# Altium footprint library PiezoDrive.PcbLib: 10 footprints
Each footprint in its own frame and in the unit in brackets; x right, y up, seen from the top. Pads: shape width x height; smd on the part's side, far side on the other; paste and mask are expansions set on the pad; w line width, h text height; cw(c..) or ccw(c..) is an arc to the next point about the centre after c.
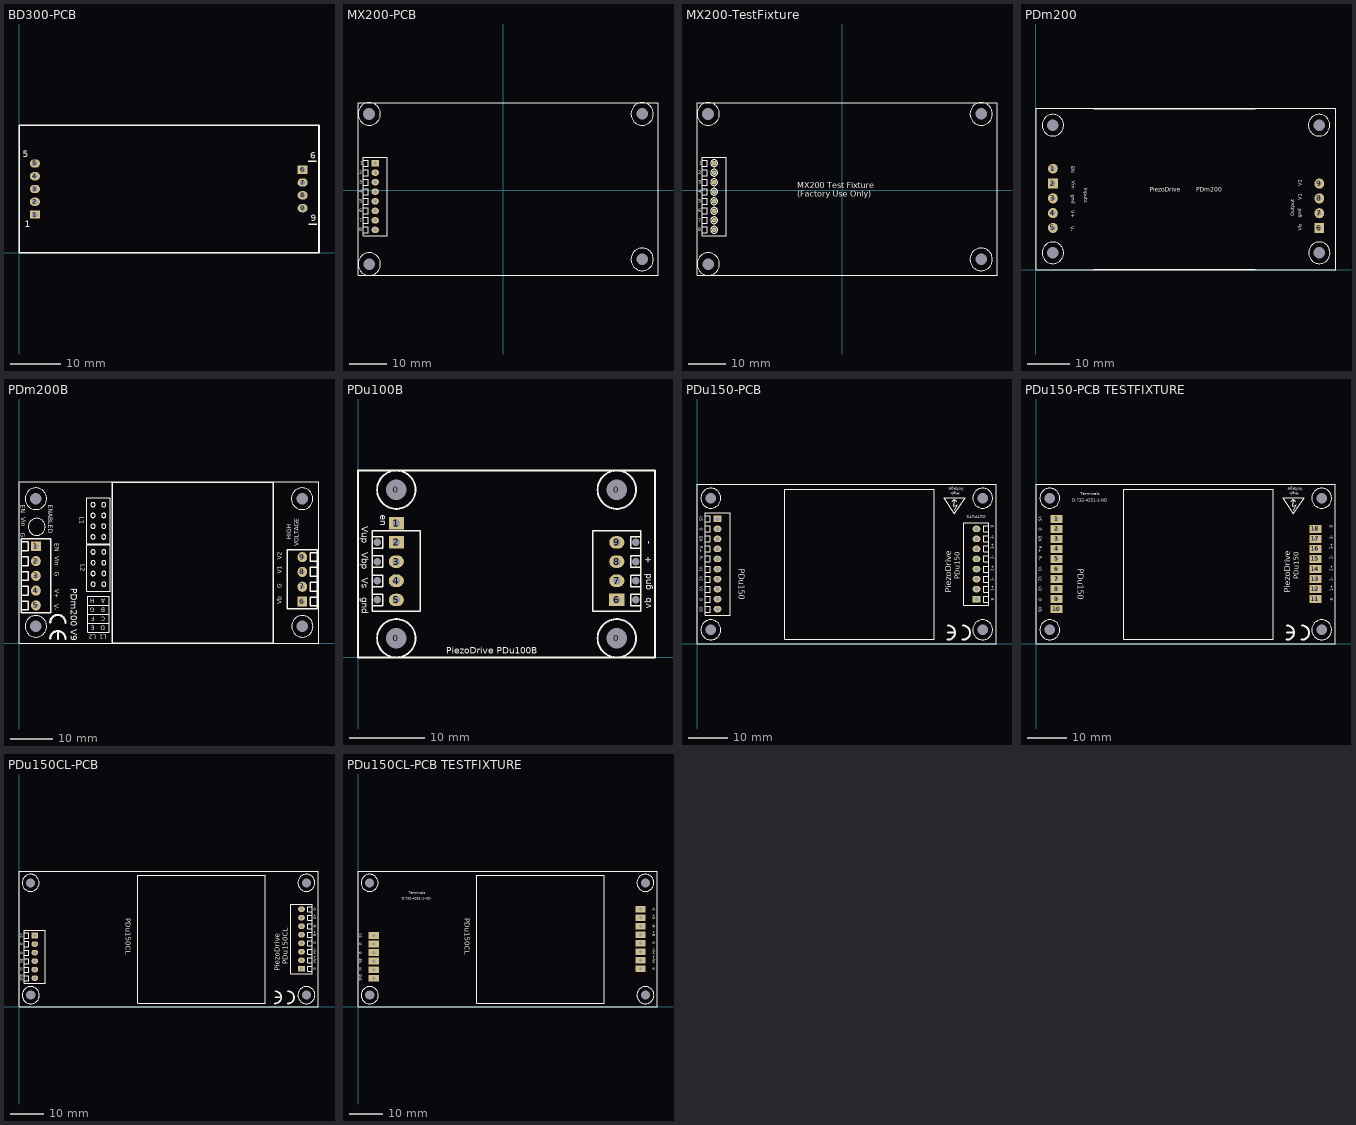
[diagram p0: the footprints below, top view; thin cyan lines are the x and y axes]

## BD300-PCB [mm] "BD300 PCB Mounting"
height 8
pads (9):
  rect 2x1.651 hole 1.1: 1(3.175,7.62) 6(56.435,16.515)
  oval 2x1.651 hole 1.1: 2(3.175,10.16) 3(3.175,12.7) 4(3.175,15.24) 5(3.175,17.78) 7(56.435,13.975) 8(56.435,11.435) 9(56.435,8.895)
Top Overlay:
  lines w0.254: 57.544,18.221 59.145,18.221 ; 57.694,5.723 59.284,5.723 ; 0,0 0,25.4 ; 0,0 59.69,0 ; 0,0 0,25.4 ; 0,0 59.69,0 ; 0,25.4 59.69,25.4 ; 0,25.4 59.69,25.4 ; 59.69,0 59.69,25.4 ; 59.69,0 59.69,0 ; 59.69,0 59.69,25.4 ; 59.69,25.4 59.69,25.4
  text "1" at 1.1,5.1 h1.3
  text "5" at 0.796,19 h1.3
  text "6" at 57.955,18.75 h1.3
  text "9" at 58.049,6.305 h1.3
Bottom Overlay:
  lines w0.203: 0,6.096 0,19.304 ; 59.61,7.371 59.61,18.039
3D body: height 2, standoff 0, extent 55.06,7.7 57.76,17.735
3D body: height 3.6, standoff 2, extent 0,0 59.69,25.4
3D body: height 8, standoff 3.6, extent 6,0 54,25.4
3D body: height 2, standoff 0, extent 1.8,6.4 4.5,19
3D body: height 2, standoff -5, extent 2.875,17.48 3.475,18.08
3D body: height 2, standoff -5, extent 2.875,14.94 3.475,15.54
3D body: height 2, standoff -5, extent 2.875,12.4 3.475,13
3D body: height 2, standoff -5, extent 2.875,9.86 3.475,10.46
3D body: height 2, standoff -5, extent 2.875,7.32 3.475,7.92
3D body: height 2, standoff -5, extent 56.135,16.215 56.735,16.815
3D body: height 2, standoff -5, extent 56.135,13.675 56.735,14.275
3D body: height 2, standoff -5, extent 56.135,11.135 56.735,11.735
3D body: height 2, standoff -5, extent 56.135,8.595 56.735,9.195

## MX200-PCB [mil] "MX200 with header for PCB mounting"
height 1811.02
pads (12):
  round 60 hole 122.05 unplated: 0(-1406.89,-774.57) 0(1459.09,-725) 0(1459.09,801.89)
  round 60 hole 125.98 unplated: 0(-1406.89,801.89)
  rect 78.74x65 hole 39.37: 1(-1345,285)
  oval 78.74x65 hole 39.37: 2(-1345,185) 3(-1345,85) 4(-1345,-15) 5(-1345,-115) 6(-1345,-215) 7(-1345,-315) 8(-1345,-415)
Top Overlay:
  circle w10: c1459.09,-725 r118.11
  circle w10: c1459.09,801.89 r118.11
  circle w10: c-1406.89,-774.57 r118.11
  circle w10: c-1406.89,801.89 r118.11
  lines w8: -1470,-445 -1416.85,-445 -1416.85,-385 -1470,-385 ; -1470,-345 -1416.85,-345 -1416.85,-285 -1470,-285 ; -1470,-245 -1416.85,-245 -1416.85,-185 -1470,-185 ; -1470,-145 -1416.85,-145 -1416.85,-85 -1470,-85 ; -1470,-45 -1416.85,-45 -1416.85,15 -1470,15 ; -1470,55 -1416.85,55 -1416.85,115 -1470,115 ; -1470,155 -1416.85,155 -1416.85,215 -1470,215 ; -1470,255 -1416.85,255 -1416.85,315 -1470,315 ; -1470,-475 -1220,-475 -1220,345 -1470,345 -1470,-475
  lines w10: -1525,-892.68 1624.61,-892.68 1624.61,920 -1525,920 -1525,-892.68
  text "2" at -1511.02,167.64 h40
  text "1" at -1501.02,267.64 h40
  text "3" at -1511.02,67.64 h40
  text "4" at -1511.02,-32.36 h40
  text "5" at -1511.02,-132.36 h40
  text "6" at -1511.02,-232.36 h40
  text "7" at -1511.02,-337.36 h40
  text "8" at -1481.02,-392.36 h40

## MX200-TestFixture [mil] "MX200 Footprint with Spring Load Terminals for Factory Testing"
height 1811.02
pads (12):
  round 60 hole 122.05 unplated: 0(-1406.89,-774.57) 0(1459.09,-725) 0(1459.09,801.89)
  round 60 hole 125.98 unplated: 0(-1406.89,801.89)
  rect 50x50 hole 20: 1(-1345,285)
  round 50 hole 20: 2(-1345,185) 3(-1345,85) 4(-1345,-15) 5(-1345,-115) 6(-1345,-215) 7(-1345,-315) 8(-1345,-415)
Top Overlay:
  circle w10: c1459.09,-725 r118.11
  circle w10: c1459.09,801.89 r118.11
  circle w10: c-1406.89,-774.57 r118.11
  circle w10: c-1406.89,801.89 r118.11
  circle w10: c-1345,285 r36
  circle w10: c-1345,185 r36
  circle w10: c-1345,85 r36
  circle w10: c-1345,-15 r36
  circle w10: c-1345,-115 r36
  circle w10: c-1345,-215 r36
  circle w10: c-1345,-315 r36
  circle w10: c-1345,-415 r36
  lines w8: -1470,-445 -1416.85,-445 -1416.85,-385 -1470,-385 ; -1470,-345 -1416.85,-345 -1416.85,-285 -1470,-285 ; -1470,-245 -1416.85,-245 -1416.85,-185 -1470,-185 ; -1470,-145 -1416.85,-145 -1416.85,-85 -1470,-85 ; -1470,-45 -1416.85,-45 -1416.85,15 -1470,15 ; -1470,55 -1416.85,55 -1416.85,115 -1470,115 ; -1470,155 -1416.85,155 -1416.85,215 -1470,215 ; -1470,255 -1416.85,255 -1416.85,315 -1470,315 ; -1470,-475 -1220,-475 -1220,345 -1470,345 -1470,-475
  lines w10: -1525,-892.68 1624.61,-892.68 1624.61,920 -1525,920 -1525,-892.68
  text "2" at -1511.02,167.64 h40
  text "1" at -1501.02,267.64 h40
  text "3" at -1511.02,67.64 h40
  text "4" at -1511.02,-32.36 h40
  text "5" at -1511.02,-132.36 h40
  text "6" at -1511.02,-232.36 h40
  text "7" at -1511.02,-337.36 h40
  text "8" at -1481.02,-392.36 h40
  text "MX200 Test Fixture / (Factory Use Only)" at -470,-70 h60

## PDm200 [mm] "PiezoDrive PDm200 Module"
height 30
pads (13):
  round 1.524 hole 2.7 unplated: 0(4.043,34.2) 0(4.043,4) 0(66.993,34.2) 0(67.043,4.001)
  round 2.3 hole 1.15: 1(4.043,23.9)
  rect 2.3x2.3 hole 1.15: 2(4.043,20.4) 6(67.043,9.874)
  oval 2.3x2.4 hole 1.15: 3(4.043,16.9) 4(4.043,13.4) 5(4.043,9.9) 7(67.043,13.374) 8(67.043,16.874) 9(67.043,20.374)
Top Overlay:
  circle w0.254: c4.043,4 r2.54
  circle w0.254: c67.043,4.001 r2.54
  circle w0.254: c4.043,34.2 r2.54
  circle w0.254: c66.993,34.2 r2.54
  lines w0.254: 0.043,0 70.993,0 70.993,38.2 0.043,38.2 0.043,0
  lines w0.3: 13.744,0 51.844,0 ; 13.744,38.1 51.844,38.1
  text "V+" at 8.323,14.023 h0.89
  text "V-" at 8.316,10.339 h0.89
  text "Vin" at 8.443,20.999 h0.89
  text "EN" at 8.425,24.511 h0.89
  text "Vb" at 62.843,9.175 h0.89
  text "gnd" at 62.743,12.283 h0.89
  text "V1" at 62.918,16.444 h0.89
  text "V2" at 62.843,19.725 h0.89
  text "Output" at 61.13,12.7 h0.89
  text "PiezoDrive" at 26.924,18.415 h1.02
  text "PDm200" at 37.973,18.415 h1.02
  text "gnd" at 8.443,17.749 h0.89
  text "Inputs" at 11.43,19.431 h0.89

## PDm200B [mm] "PiezoDrive PDm200B Module"
height 40
pads (13):
  round 1.524 hole 2.7 unplated: 0(4,34.2) 0(4,4) 0(66.95,34.2) 0(67,4.001)
  rect 2.3x2.3 hole 1.15: 1(4,22.94) 6(67,9.874)
  oval 2.3x2.4 hole 1.15: 2(4,19.44) 3(4,15.94) 4(4,12.44) 5(4,8.94) 7(67,13.374) 8(67,16.874) 9(67,20.374)
Top Overlay:
  circle w0.254: c4,4 r2.54
  circle w0.254: c67,4.001 r2.54
  circle w0.254: c4,34.2 r2.54
  circle w0.254: c66.95,34.2 r2.54
  circle w0.254: c17.501,32.766 r0.508
  circle w0.254: c20.041,32.766 r0.508
  circle w0.254: c17.501,30.226 r0.508
  circle w0.254: c20.041,30.226 r0.508
  circle w0.254: c17.501,27.686 r0.508
  circle w0.254: c20.041,27.686 r0.508
  circle w0.254: c17.501,25.146 r0.508
  circle w0.254: c20.041,25.146 r0.508
  circle w0.254: c20.066,13.97 r0.508
  circle w0.254: c17.526,13.97 r0.508
  circle w0.254: c20.066,16.51 r0.508
  circle w0.254: c17.526,16.51 r0.508
  circle w0.254: c20.066,19.05 r0.508
  circle w0.254: c17.526,19.05 r0.508
  circle w0.254: c20.066,21.59 r0.508
  circle w0.254: c17.526,21.59 r0.508
  lines w0.254: 16.231,4.75 21.336,4.75 ; 16.231,6.858 21.336,6.858 ; 16.231,8.966 21.336,8.966 ; 0,0 70.95,0 ; 0,0 0,38.2 ; 0,0 0,38.2 ; 0,0 70.95,0 ; 0,38.2 70.95,38.2 ; 0,38.2 70.95,38.2 ; 16.002,12.31 16.002,23.241 ; 16.002,12.31 21.59,12.31 ; 16.002,12.31 21.59,12.31 ; 16.002,12.31 16.002,23.241 ; 16.002,23.241 21.59,23.241 ; 16.002,23.241 21.59,23.241 ; 21.59,12.31 21.59,23.241 ; 21.59,12.31 21.59,23.241 ; 70.95,0 70.95,38.2 ; 70.95,0 70.95,38.2 ; 3.166,29.258 ccw(c4.177,27.533) 3.166,29.258 ; 15.977,23.495 21.565,23.495 21.565,34.426 15.977,34.426 15.977,23.495 ; 16.231,2.642 21.336,2.642 21.336,11.074 16.231,11.074 16.231,2.642
  lines w0.3: 21.996,0.025 21.996,38.125 60.096,38.125 60.096,0.025 21.996,0.025
  lines w0.305: 0.5,7.89 2.175,7.89 2.175,9.965 0.5,9.965 ; 0.5,11.39 2.175,11.39 2.175,13.465 0.5,13.465 ; 0.5,14.89 2.175,14.89 2.175,16.965 0.5,16.965 ; 0.5,18.39 2.175,18.39 2.175,20.465 0.5,20.465 ; 0.5,21.915 2.175,21.915 2.175,23.99 0.5,23.99 ; 70.5,8.824 68.825,8.824 68.825,10.899 70.5,10.899 ; 70.5,12.349 68.825,12.349 68.825,14.424 70.5,14.424 ; 70.5,15.849 68.825,15.849 68.825,17.924 70.5,17.924 ; 70.5,19.349 68.825,19.349 68.825,21.424 70.5,21.424 ; 0.5,7.24 7.5,7.24 7.5,24.69 0.5,24.69 0.5,7.24 ; 63.5,8.124 63.5,22.074 70.5,22.074 70.5,8.124 63.5,8.124
  lines w0.508: 7.391,1.092 cw(c9.191,1.092) 10.988,1.017 ; 7.391,4.902 cw(c9.191,4.902) 10.988,4.827 ; 9.191,1.067 9.191,2.87
  text "HIGH" at 64.399,24.529 h1
  text "L2" at 14.601,18.644 h1.02
  text "L1" at 14.376,29.896 h1.02
  text "L1" at 20.752,2.032 h1.02
  text "L2" at 18.313,2.032 h1.02
  text "H" at 17.856,10.49 h1.02
  text "G" at 17.856,8.382 h1.02
  text "F" at 17.856,6.274 h1.02
  text "E" at 17.856,4.166 h1.02
  text "D" at 20.447,4.166 h1.02
  text "C" at 20.447,6.274 h1.02
  text "B" at 20.447,8.382 h1.02
  text "A" at 20.447,10.49 h1.02
  text "Vb" at 62.114,9.175 h1.02
  text "G" at 62.128,13.056 h1.02
  text "V1" at 62.189,16.444 h1.02
  text "V2" at 62.114,19.725 h1.02
  text "V+" at 8.407,12.802 h1.02
  text "V-" at 8.331,9.271 h1.02
  text "G" at 8.433,16.916 h1.02
  text "Vin" at 8.458,20.523 h1.02
  text "EN" at 8.433,23.673 h1.02
  text "PDm200" at 12.289,13.016 h1.52
  text "VOLTAGE" at 66.158,22.95 h1.02
  text "EN" at 0.442,32.709 h1.02
  text "Vin" at 0.495,29.774 h1.02
  text "G" at 0.439,26.132 h1.02
  text "V9" at 12.291,3.293 h1.52
  text "ENABLED" at 6.918,32.709 h1.02

## PDu100B [mm] "PiezoDrive PDu100B Module"
height 15
pads (21):
  rect 0x0 hole 1 unplated: 0(2.54,7.62) 0(2.54,10.16) 0(2.54,12.7) 0(2.54,15.24) 0(36.83,7.62) 0(36.83,10.16) 0(36.83,12.7) 0(36.83,15.24)
  round 1.524 hole 2.7 unplated: 0(5.08,2.54) 0(5.08,22.225) 0(34.29,2.54) 0(34.29,22.225)
  rect 2x1.651 hole 1: 1(5.08,17.78) 2(5.08,15.24) 6(34.29,7.62)
  oval 2x1.651 hole 1: 3(5.08,12.7) 4(5.08,10.16) 5(5.08,7.62) 7(34.29,10.16) 8(34.29,12.7) 9(34.29,15.24)
Bottom Layer:
  lines w0.203: 5.08,12.7 5.588,12.7
Top Overlay:
  circle w0.254: c34.29,22.225 r2.54
  circle w0.254: c34.29,2.54 r2.54
  circle w0.254: c5.08,2.54 r2.54
  circle w0.254: c5.08,22.225 r2.54
  lines w0.203: 1.905,6.858 3.255,6.858 3.255,8.382 1.905,8.382 ; 1.905,9.398 3.255,9.398 3.255,10.922 1.905,10.922 ; 1.905,11.938 3.255,11.938 3.255,13.462 1.905,13.462 ; 1.905,14.478 3.255,14.478 3.255,16.002 1.905,16.002 ; 37.465,6.858 36.115,6.858 36.115,8.382 37.465,8.382 ; 37.465,9.398 36.115,9.398 36.115,10.922 37.465,10.922 ; 37.465,11.938 36.115,11.938 36.115,13.462 37.465,13.462 ; 37.465,14.478 36.115,14.478 36.115,16.002 37.465,16.002 ; 1.905,6.096 1.905,16.764 8.255,16.764 8.255,6.096 1.905,6.096 ; 31.115,6.096 37.465,6.096 37.465,16.764 31.115,16.764 31.115,6.096
  lines w0.254: 0,0 39.37,0 39.37,24.765 0,24.765 0,0
  text "PiezoDrive PDu100B" at 11.684,0.508 h0.89
  text "Vbp" at 0.508,13.97 h0.89
  text "Vup" at 0.508,17.399 h0.89
  text "Vs" at 0.508,10.541 h0.89
  text "en" at 2.921,18.923 h0.89
  text "gnd" at 0.508,8.001 h0.89
  text "-" at 38.862,14.986 h0.89
  text "vb" at 38.862,6.477 h0.89
  text "+" at 38.862,12.446 h0.89
  text "gnd" at 38.862,8.89 h0.89

## PDu150-PCB [mil] "150V Piezo Driver"
height 1574.8
pads (22):
  round 60 hole 106.3 unplated: 0(137.8,137.8) 0(137.8,1452.2) 0(2852.2,137.8) 0(2852.2,1452.2)
  rect 78.74x65 hole 39.37: 1(205,1245) 11(2790,445)
  oval 78.74x65 hole 39.37: 2(205,1145) 3(205,1045) 4(205,945) 5(205,845) 6(205,745) 7(205,645) 8(205,545) 9(205,445) 10(205,345) 12(2790,545) 13(2790,645) 14(2790,745) 15(2790,845) 16(2790,945) 17(2790,1045) 18(2790,1145)
Top Overlay:
  circle w10: c2852.2,137.8 r100
  circle w10: c2852.2,1452.2 r100
  circle w10: c137.8,137.8 r100
  circle w10: c137.8,1452.2 r100
  lines w7.87: 2461,1456 2570.12,1297.27 2679.25,1456 2462,1456
  lines w8: 80,315 133.15,315 133.15,375 80,375 ; 80,415 133.15,415 133.15,475 80,475 ; 80,515 133.15,515 133.15,575 80,575 ; 80,615 133.15,615 133.15,675 80,675 ; 80,715 133.15,715 133.15,775 80,775 ; 80,815 133.15,815 133.15,875 80,875 ; 80,915 133.15,915 133.15,975 80,975 ; 80,1015 133.15,1015 133.15,1075 80,1075 ; 80,1115 133.15,1115 133.15,1175 80,1175 ; 80,1215 133.15,1215 133.15,1275 80,1275 ; 2915,415 2861.85,415 2861.85,475 2915,475 ; 2915,515 2861.85,515 2861.85,575 2915,575 ; 2915,615 2861.85,615 2861.85,675 2915,675 ; 2915,715 2861.85,715 2861.85,775 2915,775 ; 2915,815 2861.85,815 2861.85,875 2915,875 ; 2915,915 2861.85,915 2861.85,975 2915,975 ; 2915,1015 2861.85,1015 2861.85,1075 2915,1075 ; 2915,1115 2861.85,1115 2861.85,1175 2915,1175 ; 80,285 80,1305 330,1305 330,285 80,285 ; 2665,385 2915,385 2915,1205 2665,1205 2665,385
  lines w10: 0,0 2990,0 2990,1590 0,1590 0,0 ; 875,45 2370,45 2370,1540 875,1540 875,45
  lines w11.81: 2550,1420 2570,1439 2586.73,1419.14 ; 2571,1438 2561.21,1373.97 2600.21,1387.97 2573.21,1330.97
  lines w20: 2502,39.73 ccw(c2504.94,110.5) 2504.94,181.33 ; 2503.94,110.5 2574.94,110.5 ; 2652,39.73 ccw(c2654.94,110.5) 2654.94,181.33
  text "OUTPUTS" at 2885,1280 h30
  text "PDu150" at 2625,641.94 h50
  text "PiezoDrive" at 2539.37,507.32 h60
  text "PDu150" at 417.01,750 h60
  text "V2" at 25,672.06 h30
  text "High" at 2625,1510 h30
  text "R-" at 25,870 h30
  text "G" at 25,455 h30
  text "OS" at 25,370 h30
  text "V1" at 25,765.1 h30
  text "EN" at 25,1071.31 h30
  text "VS" at 25,1269.3 h30
  text "Voltage" at 2665,1555 h30
  text "R+" at 25,970 h30
  text "V3" at 25,571.3 h30
  text "G" at 25,1156.48 h30
  text "1-" at 2965,625 h30
  text "1+" at 2965,525 h30
  text "3+" at 2965,940 h30
  text "2-" at 2965,840 h30
  text "g" at 2960,430 h30
  text "2+" at 2965,725 h30
  text "3-" at 2965,1040 h30
  text "g" at 2955,1155 h30

## PDu150-PCB TESTFIXTURE [mm] "150V Piezo Driver"
height 40
pads (22):
  round 1.524 hole 2.7 unplated: 0(3.5,3.5) 0(3.5,36.886) 0(72.446,3.5) 0(72.446,36.886)
  rect 3x2 hole 1: 1(5.207,31.623) 2(5.207,29.083) 3(5.207,26.543) 4(5.207,24.003) 5(5.207,21.463) 6(5.207,18.923) 7(5.207,16.383) 8(5.207,13.843) 9(5.207,11.303) 10(5.207,8.763) 11(70.866,11.303) 12(70.866,13.843) 13(70.866,16.383) 14(70.866,18.923) 15(70.866,21.463) 16(70.866,24.003) 17(70.866,26.543) 18(70.866,29.083)
Top Overlay:
  circle w0.254: c3.5,36.886 r2.54
  circle w0.254: c3.5,3.5 r2.54
  circle w0.254: c72.446,36.886 r2.54
  circle w0.254: c72.446,3.5 r2.54
  lines w0.2: 62.509,36.982 65.281,32.951 68.053,36.982 62.535,36.982
  lines w0.254: 0,0 0,40.386 75.946,40.386 75.946,0 0,0 ; 22.225,1.143 22.225,39.116 60.198,39.116 60.198,1.143 22.225,1.143
  lines w0.3: 64.77,36.068 65.278,36.551 65.703,36.046 ; 65.303,36.525 65.055,34.899 66.045,35.254 65.359,33.807
  lines w0.508: 63.551,1.009 ccw(c63.626,2.807) 63.626,4.606 ; 63.6,2.807 65.404,2.807 ; 67.361,1.009 ccw(c67.436,2.807) 67.436,4.606
  text "g" at 75.057,29.337 h0.76
  text "3-" at 75.311,26.416 h0.76
  text "2+" at 75.311,18.415 h0.76
  text "g" at 75.184,10.922 h0.76
  text "2-" at 75.311,21.336 h0.76
  text "3+" at 75.311,23.876 h0.76
  text "1+" at 75.311,13.335 h0.76
  text "1-" at 75.311,15.875 h0.76
  text "G" at 0.635,29.375 h0.76
  text "V3" at 0.635,14.511 h0.76
  text "R+" at 0.635,24.638 h0.76
  text "VS" at 0.635,32.24 h0.76
  text "EN" at 0.635,27.211 h0.76
  text "V1" at 0.635,19.434 h0.76
  text "OS" at 0.635,9.398 h0.76
  text "G" at 0.635,11.557 h0.76
  text "R-" at 0.635,22.098 h0.76
  text "V2" at 0.635,17.07 h0.76
  text "PDu150" at 10.592,19.05 h1.52
  text "PiezoDrive" at 64.5,12.886 h1.52
  text "PDu150" at 66.675,16.305 h1.27
  text "Terminals" at 11.176,37.592 h0.76
  text "D:732-4251-1-ND" at 9.144,35.941 h0.76
  text "Voltage" at 67.691,39.497 h0.76
  text "High" at 66.675,38.354 h0.76

## PDu150CL-PCB [mil] "150V Closed-Loop Piezo Driver"
height 1574.8
pads (18):
  round 60 hole 106.3 unplated: 0(136.8,1452.2) 0(137.8,136.8) 0(3367.2,1453.2) 0(3368.2,137.8)
  rect 78.74x65 hole 39.37: 1(185,836) 7(3310,445)
  oval 78.74x65 hole 39.37: 2(185,736) 3(185,636) 4(185,536) 5(185,436) 6(185,336) 8(3310,545) 9(3310,645) 10(3310,745) 11(3310,845) 12(3310,945) 13(3310,1045) 14(3310,1145)
Top Overlay:
  circle w10: c137.8,136.8 r100
  circle w10: c136.8,1452.2 r100
  circle w10: c3367.2,1453.2 r100
  circle w10: c3368.2,137.8 r100
  lines w8: 60,306 113.15,306 113.15,366 60,366 ; 60,406 113.15,406 113.15,466 60,466 ; 60,506 113.15,506 113.15,566 60,566 ; 60,606 113.15,606 113.15,666 60,666 ; 60,706 113.15,706 113.15,766 60,766 ; 60,806 113.15,806 113.15,866 60,866 ; 3435,415 3381.85,415 3381.85,475 3435,475 ; 3435,515 3381.85,515 3381.85,575 3435,575 ; 3435,615 3381.85,615 3381.85,675 3435,675 ; 3435,715 3381.85,715 3381.85,775 3435,775 ; 3435,815 3381.85,815 3381.85,875 3435,875 ; 3435,915 3381.85,915 3381.85,975 3435,975 ; 3435,1015 3381.85,1015 3381.85,1075 3435,1075 ; 3435,1115 3381.85,1115 3381.85,1175 3435,1175 ; 60,276 310,276 310,896 60,896 60,276 ; 3185,385 3435,385 3435,1205 3185,1205 3185,385
  lines w10: 0,0 0,1590 3505,1590 3505,0 0,0 ; 1390,45 1390,1540 2885,1540 2885,45 1390,45
  lines w20: 2999.05,40.23 ccw(c3002,111) 3002,181.83 ; 3001,111 3072,111 ; 3149.05,40.23 ccw(c3152,111) 3152,181.83
  text "PDu150CL" at 3145.94,500.55 h60
  text "PDu150CL" at 1250,1040.48 h60
  text "G" at 3485,430 h30
  text "G" at 3485,735 h30
  text "HV+" at 3485,510 h30
  text "B+" at 3485,825 h30
  text "HV-" at 3485,615 h30
  text "S+" at 3485,1025 h30
  text "B-" at 3485,925 h30
  text "S-" at 3485,1125 h30
  text "G" at 16,644.53 h30
  text "EN" at 16,565 h30
  text "G" at 16,749.53 h30
  text "IN" at 16,462.01 h30
  text "VS" at 16,860 h30
  text "SNS" at 16,380 h30
  text "PiezoDrive" at 3055,420.52 h60

## PDu150CL-PCB TESTFIXTURE [mm] "150V Closed-Loop Piezo Driver"
height 40
pads (18):
  round 1.524 hole 2.7 unplated: 0(3.475,36.886) 0(3.5,3.475) 0(85.527,36.911) 0(85.552,3.5)
  rect 3x2 hole 1: 1(4.699,21.234) 2(4.699,18.694) 3(4.699,16.154) 4(4.699,13.614) 5(4.699,11.074) 6(4.699,8.534) 7(84.074,11.303) 8(84.074,13.843) 9(84.074,16.383) 10(84.074,18.923) 11(84.074,21.463) 12(84.074,24.003) 13(84.074,26.543) 14(84.074,29.083)
Top Overlay:
  circle w0.254: c3.5,3.475 r2.54
  circle w0.254: c3.475,36.886 r2.54
  circle w0.254: c85.527,36.911 r2.54
  circle w0.254: c85.552,3.5 r2.54
  lines w0.254: 0,0 0,40.386 89.027,40.386 89.027,0 0,0 ; 35.306,1.143 35.306,39.116 73.279,39.116 73.279,1.143 35.306,1.143
  text "D:732-4251-1-ND" at 13.081,31.877 h0.76
  text "PDu150CL" at 31.75,26.428 h1.52
  text "G" at 88.519,10.922 h0.76
  text "G" at 88.519,18.669 h0.76
  text "HV+" at 88.519,12.954 h0.76
  text "B+" at 88.519,20.955 h0.76
  text "HV-" at 88.519,15.621 h0.76
  text "S+" at 88.519,26.035 h0.76
  text "B-" at 88.519,23.495 h0.76
  text "S-" at 88.519,28.575 h0.76
  text "G" at 0.406,16.371 h0.76
  text "EN" at 0.406,14.351 h0.76
  text "G" at 0.406,19.038 h0.76
  text "IN" at 0.406,11.735 h0.76
  text "VS" at 0.406,21.844 h0.76
  text "SNS" at 0.406,9.652 h0.76
  text "Terminals" at 15.113,33.528 h0.76